# EAGLE library part MM74HC138M (library Fairchild_By_element14_Batch_1)
3-to-8 Line Decoder
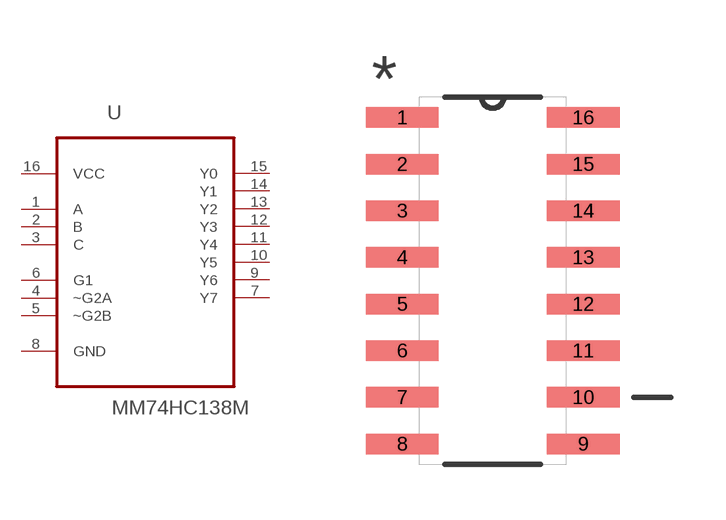
[diagram p246: symbol with the pads of SOIC127P600X175-16N; footprint SOIC127P600X175-16N]

Designator prefix U

## MM74HC138M (MPN: MM74HC138M; OC_FARNELL: 1013964; OC_NEWARK: 34C7980; PACKAGE: SOIC-16; SUPPLIER: Fairchild)  [SOIC127P600X175-16N]
1  A  in
2  B  in
3  C  in
4  ~G2A  in
5  ~G2B  in
6  G1  in
7  Y7  out
8  GND  pas
9  Y6  out
10  Y5  out
11  Y4  out
12  Y3  out
13  Y2  out
14  Y1  out
15  Y0  out
16  VCC  pwr

## Footprint SOIC127P600X175-16N (pad centres in mm)
smd 1.981 x 0.559: 1 -2.464,4.445; 2 -2.464,3.175; 3 -2.464,1.905; 4 -2.464,0.635; 5 -2.464,-0.635; 6 -2.464,-1.905; 7 -2.464,-3.175; 8 -2.464,-4.445; 9 2.464,-4.445; 10 2.464,-3.175; 11 2.464,-1.905; 12 2.464,-0.635; 13 2.464,0.635; 14 2.464,1.905; 15 2.464,3.175; 16 2.464,4.445